# Altium schematic symbol library SI5394A-A-GM.SchLib: 1 symbol
Pins are listed as number, name and electrical type; pins without a type are passive.

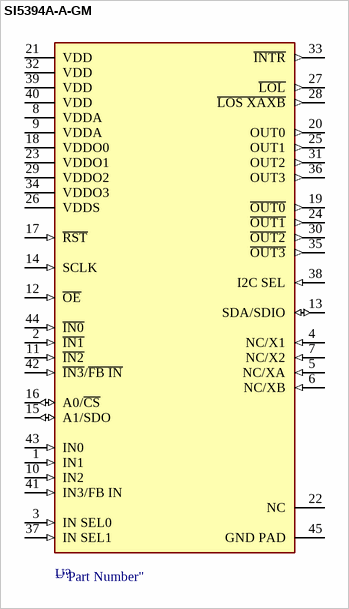
[diagram p0: symbol SI5394A-A-GM]

## SI5394A-A-GM
designator U?  (value not drawn)
Clock Synthesizer / Jitter Cleaner Single PLL jitter attenuator with xtal: 4-outputs up to 1028 MHz; integer+fractional; ComponentLink1Description: Mouser; ComponentLink1URL: https://www.mouser.com/ProductDetail/Silicon-Labs/SI5394A-A-GM?qs=%2fha2pyFaduisgdiMGt%252b%2f7qa3GP0ynwz5%2fzUWGw5azNbufi%2fmPBRNDA%3d%3d
pins: 1 IN1 (in), 2 ~{IN1} (in), 3 IN SEL0 (in), 4 NC/X1 (in), 5 NC/XA (in), 6 NC/XB (in), 7 NC/X2 (in), 8 VDDA (power), 9 VDDA (power), 10 IN2 (in), 11 ~{IN2} (in), 12 ~{OE} (in), 13 SDA/SDIO (io), 14 SCLK (in), 15 A1/SDO (io), 16 A0/~{CS} (io), 17 ~{RST} (in), 18 VDDO0 (power), 19 ~{OUT0} (out), 20 OUT0 (out), 21 VDD (power), 22 NC, 23 VDDO1 (power), 24 ~{OUT1} (out), 25 OUT1 (out), 26 VDDS (power), 27 ~{LOL} (out), 28 ~{LOS XAXB} (out), 29 VDDO2 (power), 30 ~{OUT2} (out), 31 OUT2 (out), 32 VDD (power), 33 ~{INTR} (out), 34 VDDO3 (power), 35 ~{OUT3} (out), 36 OUT3 (out), 37 IN SEL1 (in), 38 I2C SEL (in), 39 VDD (power), 40 VDD (power), 41 IN3/FB IN (in), 42 ~{IN3}/~{FB IN} (in), 43 IN0 (in), 44 ~{IN0} (in), 45 GND PAD (power)